# Altium footprint library SnapEDApcb.PcbLib: 1 footprints
Each footprint in its own frame and in the unit in brackets; x right, y up, seen from the top. Pads: shape width x height; smd on the part's side, far side on the other; paste and mask are expansions set on the pad; w line width, h text height; cw(c..) or ccw(c..) is an arc to the next point about the centre after c.
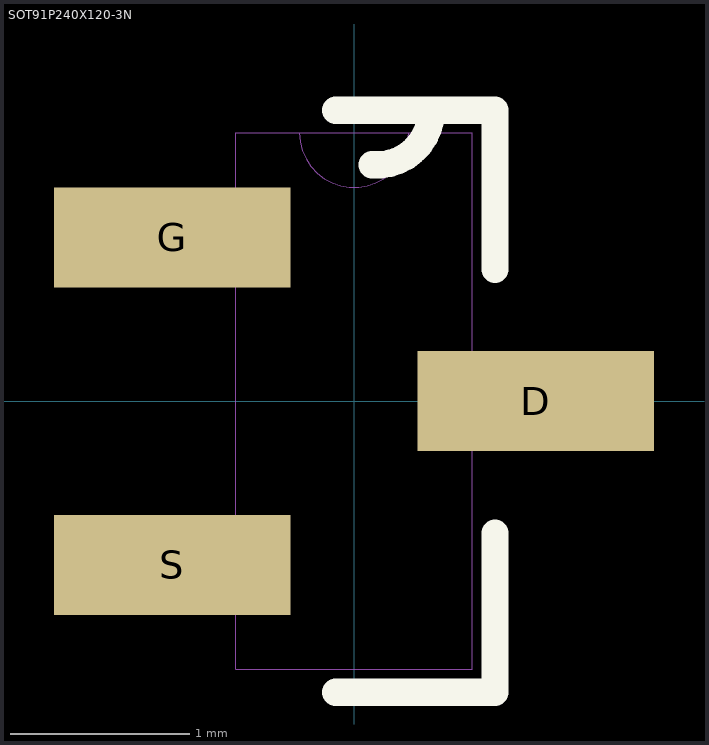
[diagram p0: the footprint, top view; thin cyan lines are the x and y axes]

## SOT91P240X120-3N [mil]
pads (3):
  rect 52x22 smd: D(40,0) G(-40,36) S(-40,-36)
Top Overlay:
  lines w6: -4,-64 31,-64 31,-29 ; -4,64 17,64 31,64 31,29 ; 3.96,52 ccw(c5,63.96) 17,63.96
Mechanical 13:
  lines w0: -26,-46 -26,-59 26,-59 26,-10 ; -26,-46 -26,-26 ; -26,-46 -49,-46 -49,-26 -26,-26 ; -26,-26 -26,26 ; -26,26 -26,46 ; -26,26 -49,26 -49,46 -26,46 ; -26,46 -26,59 -12,59 ; -12,59 ccw(c0,59) 12,59 ; -12,59 12,59 ; 12,59 26,59 26,10 ; 26,-10 26,10 ; 26,-10 49,-10 49,10 26,10
3D body "bs170fta.step": height 43.43, standoff 0, extent -47.24,-57.08 47.25,57.09